# EAGLE library part LM3481QMMX/NOPB (library 000_VansAircraft)
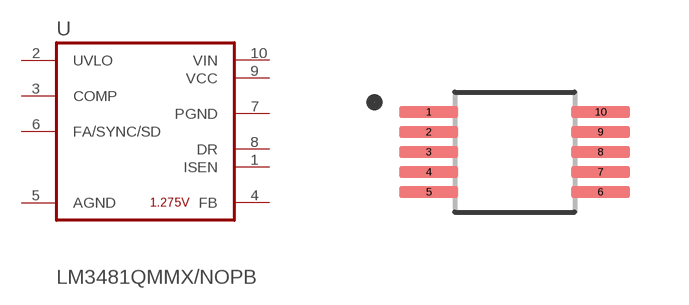
[diagram p5: symbol with the pads of SOP50P490X110-10N; footprint SOP50P490X110-10N]

Designator prefix U

## LM3481QMMX/NOPB  [SOP50P490X110-10N]
1  ISEN  in
2  UVLO  in
3  COMP  in
4  FB  in
5  AGND  pwr
6  FA/SYNC/SD  in
7  PGND  pwr
8  DR  out
9  VCC  out
10  VIN  in

## Footprint SOP50P490X110-10N (pad centres in mm)
smd 1.47 x 0.28: 1 -2.15,1; 2 -2.15,0.5; 3 -2.15,0; 4 -2.15,-0.5; 5 -2.15,-1; 6 2.15,-1; 7 2.15,-0.5; 8 2.15,0; 9 2.15,0.5; 10 2.15,1